# Altium schematic symbol library GraphicsPrimitives.SchLib: 1 symbol
Pins are listed as number, name and electrical type; pins without a type are passive.

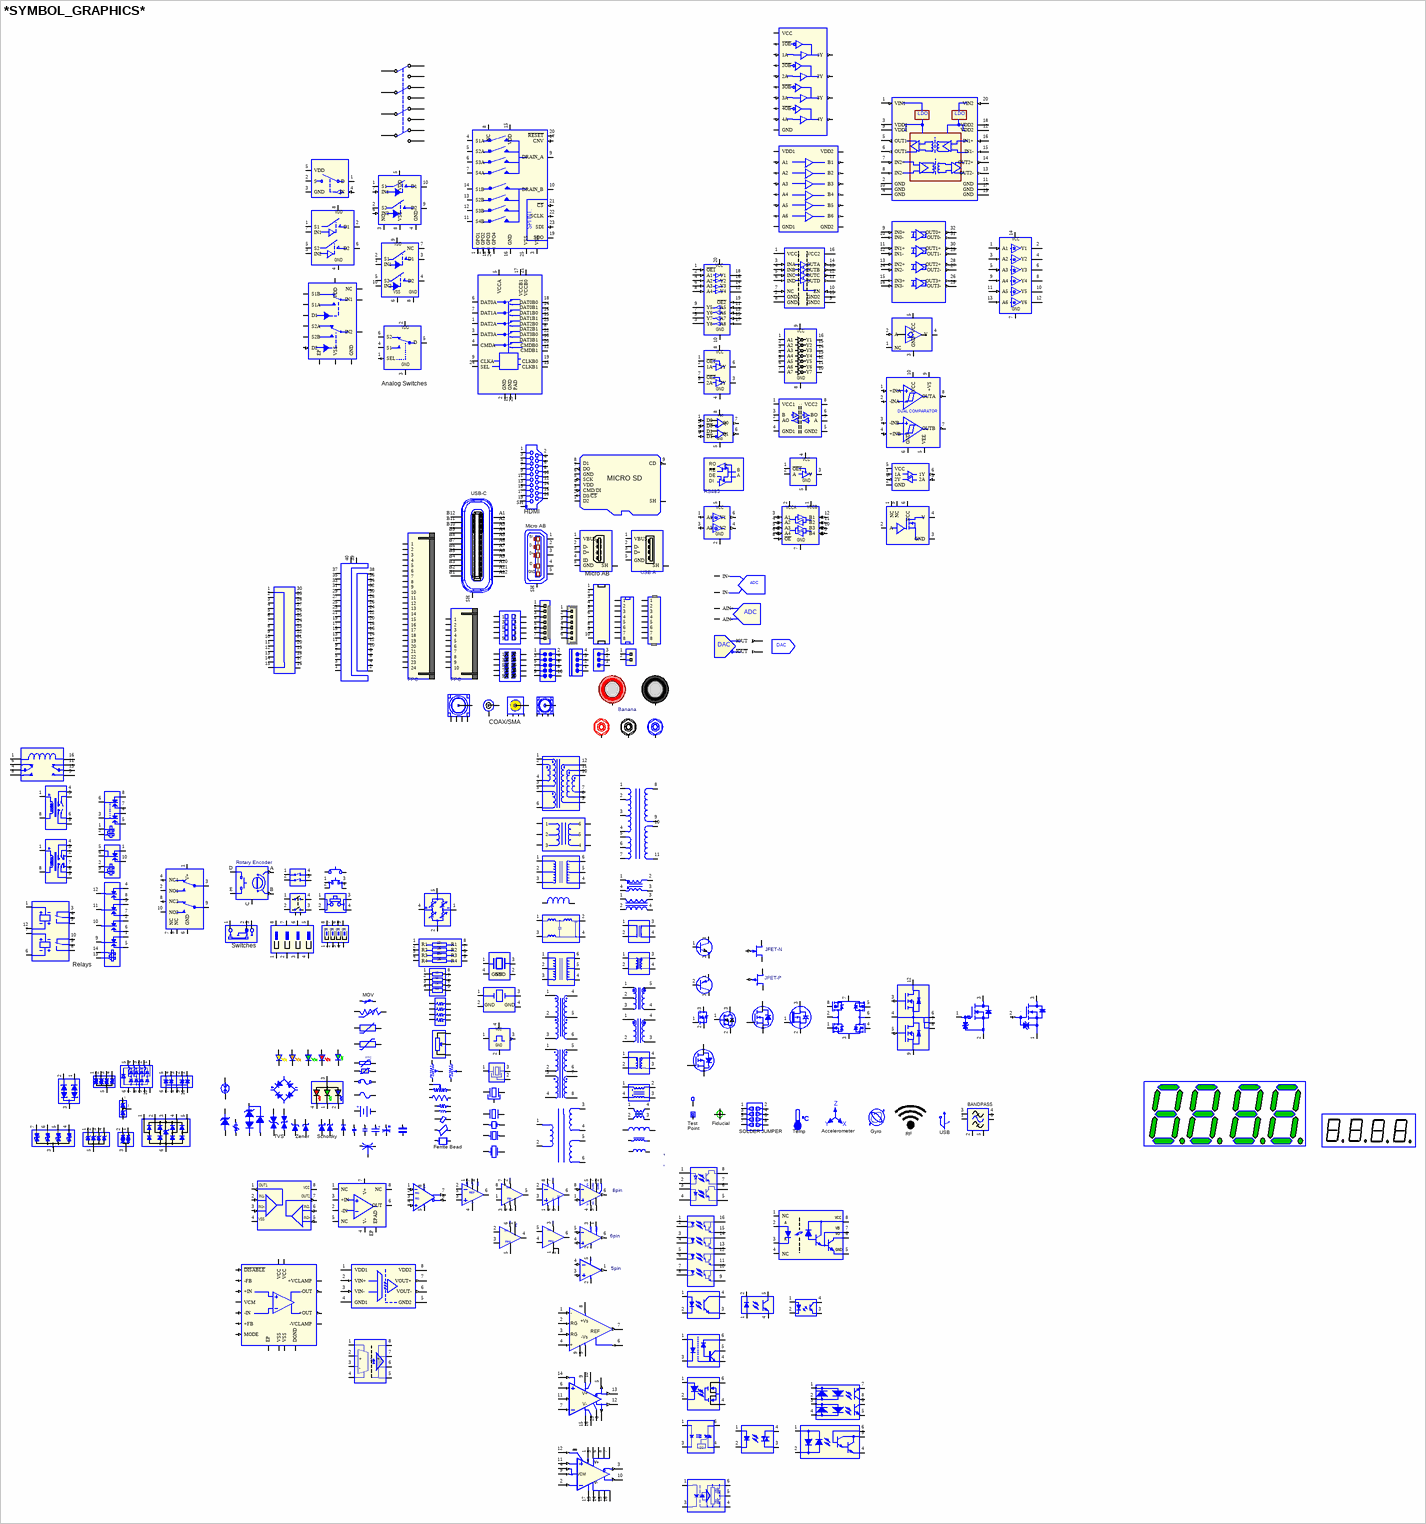
[diagram p0: symbol *SYMBOL_GRAPHICS*]

## *SYMBOL_GRAPHICS*
designator *
pins: 1, 1, 1 VDD1 (power), 1 NC, 1, 1, 1, 1 D0 (in), 1, 1 OUT1 (out), 1, 1, 1, 1, 1, 1, 1, 1, 1, 1, 1, 1, 1, 1, 1, 1, 1, 1, 1, 1, 1, 1, 1, 1, 1, 1, 1 +, 1, 1, 1, 1, 1, 1, 1, 1, 1 O-, 1, 1 OSC1, 1, 1, 1, 1, 1, 1, 1, 1 CG, 1 A, 1 A, 1 A, 1, 1, 1, 1, 1, 1, 1, 1 C1, 1, 1, 1, 1 GND, 1, 1, 1 TP, 1 S1, 1 G, 1 G, 1 GATE, 1 E, 1 B, 1 N1G, 1 A1 (in), 1 VCCB, 1 ~{OE1}, 1 ~{OE1}, 1 VCC1, 1 ~{OE1} (in), 1 A1, 1 NC, 1 VCC1 (power), 1 R1, 1, 1 G, 1, 1 VDD1 (power), 1, 1 NC, 1 1A (in), 1 ~{1OE} (in), 1, 1, 1, 1, 1 SOURCE, 1 NC, 1 -FB (in), 1 (power), 1, 1, 1 XTAL1, 1 CATHODE, 1, 1, 1 (power), 1, 1, 1 +INA (in), 1 GATE (in), 1 GATE (in), 1 V+ (power), 1 T1, 1 T1, 1, 1 COIL+, 1 NC1, 1 NC, 1, 1, 1, 1, 1, 1, 1, 1, 1 D2, 1, 1 VBUS (power), 1 VBUS (power), 1 VBUS (power), 1, 1, 1, 1, 1, 1, 1, 1, 1, 1, 1, 1, 1, 1, 1, 1, 1 SEL (in), 1 S1, 1 D (io), 1 IN1, 1 S1 (io), 1 GPO1 (out), 1 D1, 1 DAT2A, 1, 1 VIN1 (in), 1 OUT (out), 1 REF, 1 SHDN#, 1 RS+, 1 RG, 1 +IN (in), 1 VOSTRM, 1 GND, 1 -IN (in), 1, 1 A, 1 ANODE, 1, 1 ANODE, 1, 1 A1, 1 IN, 1 NC, 1, 1, 1 TMDS DATA2+, 1 A1 (in), 1, 1, 1, 1 -IN (in), 2 S, 2 S, 2, 2, 2 VIN+ (in), 2 VIN- (in), 2, 2, 2 ~{D0} (in), 2, 2 IN1- (in), 2, 2, 2, 2, 2, 2, 2, 2, 2, 2, 2, 2, 2, 2, 2, 2, 2, 2, 2, 2, 2 GND, 2, 2, 2, 2, 2, 2 -, 2, 2, 2, 2, 2, 2, 2, 2, 2, 2, 2 EX2, 2, 2 OSC2, 2, 2, 2, 2 GND (power), 2, 2, 2 CB, 2 K, 2 K, 2 K, 2 K, 2 K, 2, 2, 2, 2, 2, 2, 2, 2 C2, 2, 2, 2, 2 GND, 2, 2 G1, 2 S2, 2 SOURCE, 2 B, 2 E, 2 N1D/P1D, 2 GND, 2 VCCA, 2 1A, 2 A, 2 AO, 2 A1 (in), 2 A2, 2 A (in), 2 GND1 (power), 2 R2, 2, 2 S, 2, 2 A1 (in), 2, 2 A, 2 GND (power), 2 1A (in), 2, 2, 2, 2, 2 GATE (in), 2 -IN, 2 +IN (in), 2 (power), 2, 2, 2 GND1, 2 ANODE, 2, 2, 2 (power), 2, 2, 2 -INA (in), 2 DRAIN, 2 DRAIN, 2 NO1, 2 NC1, 2 COIL-, 2 NC2, 2 COIL1, 2, 2, 2, 2, 2, 2, 2, 2, 2 D3/~{CS} (in), 2, 2 D-, 2 D-, 2 D-, 2, 2, 2, 2, 2, 2, 2 G1, 2, 2 G1, 2 GND_1 (power), 2, 2, 2 VDD, 2 D1, 2 S (io), 2 S1, 2 S2 (io), 2 GPO2 (out), 2 S1B, 2 GND, 2, 2 GND (power), 2 V- (power), 2 GND (power), 2 IN-, 2 V+, 2 IN-, 2 GRD, 2 IN-, 2 GND2, 2 RG_2, 2, 2 CATHODE, 2, 2 CATHODE, 2, 2 A2, 2 GND, 2 AN, 2, 2, 2 TMDS DATA2 SH, 2 Y1 (oc), 2, 2 GND (power), 2 RG (in), 3 D, 3, 3, 3 VIN- (in), 3 VOUT+ (out), 3, 3, 3, 3 D1 (in), 3, 3 IN1+ (in), 3, 3, 3, 3, 3, 3, 3, 3, 3, 3, 3, 3 TAP, 3 OUT (out), 3, 3, 3, 3, 3 2, 3 A, 3, 3, 3, 3, 3, 3 GND (power), 3, 3, 3 CC, 3, 3, 3 GND, 3, 3 D, 3 G2, 3 DRAIN, 3 C, 3 C, 3 TG (in), 3 N1S/N2S, 3 A2 (in), 3 A1 (io), 3 2Y, 3 Y, 3 B, 3 Y8 (hiz), 3 A3, 3 GND (power), 3 INA (in), 3 R3, 3 D, 3 A2 (in), 3, 3 GND, 3 2A (in), 3 1Y (out), 3, 3, 3, 3 DRAIN, 3 +IN, 3 -IN (in), 3, 3, 3 XTAL2, 3, 3, 3 -INB (in), 3 SOURCE, 3 SOURCE, 3 COM1, 3 COM1, 3 COM1, 3, 3 COMMON1, 3 NC3, 3, 3, 3, 3, 3, 3, 3, 3 CMD/DI (in), 3, 3 D+, 3 D+, 3 D+, 3, 3, 3, 3, 3, 3, 3 G2, 3 G2, 3 GND_2 (power), 3, 3, 3 GND, 3 IN2, 3 GND (power), 3 D1, 3 NC, 3 VSS (power), 3 VSS (power), 3 DAT3A, 3, 3 VDD1 (power), 3 IN+, 3 IN+ (in), 3 VS (power), 3 IN+, 3, 3 IN+, 3 IC, 3 IN+, 3 VCC, 3 RG_3, 3, 3 C, 3, 3 A3, 3 NC, 3 CA, 3, 3, 3 TMDS DATA2-, 3 A2 (in), 3, 3 2, 3 RG (in), 4, 4, 4 GND1 (power), 4 CM (in), 4, 4, 4, 4 ~{D1} (in), 4, 4 VCC- (power), 4, 4, 4, 4, 4, 4, 4, 4, 4, 4, 4, 4 VCC, 4, 4, 4 O+, 4, 4 CR, 4, 4, 4, 4, 4 L6, 4, 4, 4, 4 GND, 4, 4 D2, 4 TGR, 4 N2G, 4 Y2 (out), 4 A2 (io), 4 GND (power), 4 V (power), 4 GND1, 4 A2 (in), 4 A4, 4 Y (oc), 4 INB (in), 4 R4, 4 A3 (in), 4 Y, 4 2Y (out), 4 ~{2OE} (in), 4, 4, 4 V-, 4 +FB (in), 4, 4, 4 GND2, 4, 4 +INB (in), 4 NC1 (in), 4 NO1, 4 NO1, 4, 4 NC1, 4 NC4, 4, 4, 4, 4, 4, 4, 4 VDD (power), 4, 4 ID (power), 4 ID (power), 4, 4, 4, 4, 4, 4, 4 G3, 4 G3, 4 GND_3 (power), 4 GND_3 (power), 4, 4, 4 S1, 4 GND, 4 IN (in), 4 D2, 4 GND (power), 4 S1A, 4 GND, 4 CMDA, 4, 4 GND (power), 4 AIN- (power), 4 IN-, 4 IN- (in), 4 IN+ (in), 4 OUT, 4 V-, 4 V-, 4 V- (power), 4 V-, 4 RS+, 4 +IN (in), 4, 4 E, 4 EMITTER, 4, 4 LOAD, 4, 4 A4, 4 NC, 4 NC, 4, 4, 4 TMDS DATA1+, 4 Y2 (oc), 4, 4 GND (power), 4 3, 4 +IN (in), 5, 5, 5 GND2 (power), 5 VS+ (power), 5 GND, 5 IN2+ (in), 5, 5, 5, 5, 5, 5, 5, 5, 5 EX, 5, 5 GND, 5, 5, 5 L8, 5 GND, 5, 5 BG (in), 5 P2G, 5 VCC, 5 A3 (io), 5 2A, 5 G (power), 5 GND2, 5 Y7 (hiz), 5 A5, 5 VCC (power), 5 INC (in), 5 R4, 5 A4 (in), 5 NC, 5 VCC (power), 5 2A (in), 5, 5 NC, 5 MODE (in), 5, 5 VEE (power), 5 NC, 5 NO2, 5 NO2, 5, 5 NO1, 5 NO1, 5 COMMON, 5, 5, 5, 5, 5, 5 SCK (in), 5, 5 GND (power), 5 GND (power), 5 GND (power), 5, 5, 5, 5, 5, 5, 5 G4, 5 G4, 5 SIG, 5, 5, 5 D, 5 S2, 5 VDD (power), 5 S2, 5 VDD (power), 5 S2A, 5 IN2, 5 VCCA, 5, 5 OUT1+ (out), 5 AIN+ (power), 5 V+ (power), 5 IN- (in), 5 V-, 5 OUT, 5 REF, 5 V+ (power), 5 NC, 5 RS-, 5 -VS (power), 5 CO, 5 COLLECTOR, 5, 5 B4, 5 GND, 5 GND (power), 5, 5, 5 TMDS DATA1 SH, 5 A3 (in), 5, 5 -FB2 (out), 5 -VS (power), 6, 6, 6 VOUT- (out), 6 VS+ (power), 6, 6 Q1 (out), 6 IN2- (in), 6, 6, 6, 6, 6, 6, 6, 6, 6, 6, 6 L7, 6, 6 VSW (power), 6 N2D/P2D, 6 Y1 (out), 6 A4 (io), 6 1Y, 6 BO, 6 A3 (in), 6 A6, 6 IND (in), 6 R3, 6 A5 (in), 6 VCC, 6 1Y (out), 6 2Y (out), 6, 6 OUT, 6 VCC (power), 6, 6 GND (power), 6 GND (power), 6 COM2, 6 COM2, 6, 6 COMMON2, 6 NO2, 6 COM, 6, 6, 6, 6, 6, 6 GND (power), 6, 6, 6, 6, 6, 6, 6, 6, 6, 6 S2, 6 D2, 6 VSS (power), 6 IN2 (in), 6 S3A, 6 S2A, 6 DAT0A, 6, 6 OUT1- (out), 6 OUT (out), 6 V+, 6, 6 OUT, 6 OUT (out), 6 OUT, 6 OUT, 6 REF (in), 6 VCC (power), 6 LOAD, 6, 6 B3, 6 OUT, 6 VO (oc), 6, 6, 6 TMDS DATA1-, 6 Y3 (oc), 6, 6, 6 +IN2 (in), 6 REF (in), 7, 7, 7 VOUT+ (out), 7 VS+ (power), 7 Q0 (out), 7 OUT2 (out), 7, 7, 7, 7, 7, 7 L5, 7, 7 D1, 7 VSW (power), 7 P1S/P2S, 7 GND, 7 ~{OE2}, 7 A, 7 Y6 (hiz), 7 A7, 7 NC (in), 7 R2, 7 A6 (in), 7 GND (power), 7, 7 V+, 7 VCC (power), 7, 7 OUTB (out), 7 NC, 7 NC1, 7, 7 NO2, 7 NO3, 7, 7, 7, 7, 7 DO (out), 7, 7, 7, 7, 7, 7, 7, 7, 7 IN1, 7 NC, 7 IN1 (in), 7 S4A, 7 D2 (in), 7 DAT1A, 7, 7 IN2+ (in), 7, 7 V+, 7 GRD, 7 V+, 7 VOUT (out), 7 B2, 7 VB (power), 7, 7, 7 TMDS DATA0+, 7 GND (power), 7 -IN2 (in), 7 VOUT (out), 8, 8, 8 VDD2 (power), 8 VS+ (power), 8 VCC, 8 VCC+ (power), 8, 8, 8, 8, 8, 8, 8 D1, 8 VSW (power), 8 P1G, 8 ~{OE} (in), 8 VCC (power), 8 VCC2, 8 A4 (in), 8 GND, 8 GND1 (power), 8 R1, 8 GND1 (power), 8 3Y (out), 8, 8 NC, 8 +VCLAMP (power), 8, 8 OUTA (out), 8 NC2 (in), 8 T2, 8 T2, 8, 8 NC2, 8 NO4, 8, 8, 8, 8 D1, 8, 8, 8, 8, 8, 8, 8, 8, 8 VDD (power), 8 GND (power), 8 VSS (power), 8 NC, 8 S2B, 8 DAT2B1, 8, 8 IN2- (in), 8 RS-, 8 RG, 8 -IN (in), 8 VOSTRIM, 8 +VS (power), 8 B1, 8 VCC (power), 8, 8, 8 TMDS DATA0 SH, 8 Y4 (oc), 8 4, 8 +FB2 (out), 8 +VS (power), 9, 9 CM (in), 9, 9, 9 PGND (power), 9 B4 (io), 9 Y5 (hiz), 9 VCC, 9 GND2 (power), 9 GND2 (power), 9 3A (in), 9, 9 VCM, 9 +VS (power), 9 COM2, 9, 9 COMMON1, 9 COIL2, 9, 9 CD (out), 9, 9, 9, 9, 9, 9, 9, 9, 9 VDD (power), 9 D2 (io), 9 DRAIN_A, 9 VDD (power), 9 CLKA, 9, 9 IN0+ (in), 9 VDD1 (power), 9 TMDS DATA0-, 9 A4 (in), 9 5, 9 +VS2 (power), 9 PAD (power), 10, 10 VOUT- (out), 10, 10, 10 B3 (io), 10 GND (power), 10 Y7, 10 EN (in), 10 B6 (out), 10 ~{3OE} (in), 10, 10 +OUT (out), 10 VCC (power), 10 NO2, 10, 10 COMMON2, 10 NO, 10, 10, 10, 10, 10, 10, 10, 10, 10, 10 IN2, 10 D1 (io), 10 DRAIN_B, 10 NC, 10 DAT3B1, 10, 10 IN0- (in), 10 GND (power), 10 TMDS CLOCK+, 10 Y5 (oc), 10 +VS2 (power), 11, 11 VIN+ (in), 11 B2 (io), 11 A5 (in), 11 Y6, 11 OUTD (out), 11 B5 (out), 11 4Y (out), 11, 11 -OUT (out), 11 COMMON3, 11, 11, 11, 11, 11 S4B, 11 IN1, 11 GND, 11, 11 IN1+ (in), 11 GND (power), 11 TMDS CLOCK SH, 11 A5 (in), 11 7, 11 VOCM (in), 12, 12 ~{PD} (in), 12 VIN (power), 12 B1 (io), 12 Y4 (hiz), 12 Y5, 12 OUTC (out), 12 B4 (out), 12 4A (in), 12, 12 ~{DISABLE} (in), 12, 12 COMMON4, 12, 12, 12, 12 S3B, 12 S1A, 12 CMDB1, 12, 12 IN1- (in), 12 VDD2 (power), 12 TMDS CLOCK-, 12 Y6 (oc), 12 +OUT2 (out), 13, 13 VS- (power), 13 A6 (in), 13 Y4, 13 OUTB (out), 13 B3 (out), 13 ~{4OE} (in), 13 -VCLAMP (power), 13 COIL+, 13, 13, 13, 13 S2B, 13 EP, 13 CLKB1, 13 IN2+ (in), 13 OUT2- (out), 13 CEC, 13 A6 (in), 13 6, 13 -OUT2 (out), 14, 14 VS- (power), 14 Y3 (hiz), 14 Y3, 14 OUTA (out), 14 B2 (out), 14 VCC (power), 14 VSS (power), 14 COIL-, 14, 14, 14, 14 S1B, 14 DAT0B1, 14 IN2- (in), 14 OUT2+ (out), 14 Utility/HEAC+, 14 VCC (power), 14 DISABLE_N (in), 15, 15 VS- (power), 15 A7 (in), 15 Y2, 15 GND2 (power), 15 B1 (out), 15 VSS (power), 15, 15, 15, 15 VDD (power), 15 DAT1B1, 15 IN3+ (in), 15 IN1- (in), 15 DDC_SCL, 15 -VS2 (power), 16, 16 VS- (power), 16 Y2 (hiz), 16 Y1, 16 VCC2 (power), 16 VDD2 (power), 16 DGND (power), 16, 16, 16 15A, 16 GND (power), 16 DAT1B0, 16 IN3- (in), 16 IN1+ (in), 16 DDC_SDA, 16 8, 16 -VS2 (power), 17 PAD, 17 A8 (in), 17 EP (power), 17, 17, 17 14A, 17 CNV (in), 17 VCCB1, 17 GND (power), 17 GND, 18 Y1 (hiz), 18, 18, 18 13A, 18 GPO3 (out), 18 DAT0B0, 18 VDD2 (power), 18 +5V, 19 ~{OE2} (in), 19, 19, 19 12A, 19 SDO, 19 CLKB0, 19 GND (power), 19 HPD/HEAC-, 20 VCC (power), 20, 20, 20 11A, 20 ~{RESET}, 20 CMDB0, 20 VIN2 (in), 21, 21, 21 10A, 21 ~{CS} (in), 21 VCCB0, 22, 22, 22 9A, 22 SCLK (in), 22 DAT3B0, 23, 23, 23 8A, 23 SDI (in), 23 DAT2B0, 24, 24, 24 7A, 24 GPO4 (out), 24 SEL, 25, 25 6A, 25 VSS (power), 25 PAD, 25 OUT3- (out), 25 EP (power), 26, 26 5A, 26 OUT3+ (out), 27, 27 4A, 27 OUT2- (out), 28, 28 3A, 28 OUT2+ (out), 29, 29 2A, 29 OUT1- (out), 30, 30 1A, 30 OUT1+ (out), 31, 31 OUT0- (out), 32, 32 OUT0+ (out), 33, 34, 35, 36, 37, 38, 39, 40, 80 ~{IOUT} (out) "Open-Drain DAC Complementary Output Source. Analog output (current mode). Connect through a 50  ohm resistor to AGND.", 81 IOUT (out) "Open-Drain DAC Output Source. Analog output (current mode). Connect through a 50  ohm resistor to AGND.", A ANODE, A, A, A, A, A, A, A (out), A1, A2, A3, A4, A5, A6, A7, A8, A9, A10, A11, A12, B (out), B1, B2, B3, B4, B5, B6, B7, B8, B9, B10, B11, B12, C CATHODE, C CATHODE, C GND (power), D, E, EP EPAD, K, K, K, K, M1 NC, M2 NC, SH, SH (power), SH, SH, SH, SH
text: LDO; SPI INT.; Analog Switches; DUAL COMPARATOR; RO; R; RE; DE; MICRO SD; DI; RS485; USB-C; HDMI; Micro AB; 5V; USB A; ADC; DAC; FPC; Banana; COAX/SMA; Rotary Encoder; ON; 10k; Switches; JFET-N; Relays; JFET-P; MOV; PTC; Z; BANDPASS; Test; Fiducial; X; Point; SOLDER JUMPER; Temp; Accelerometer; Gyro; USB; RF; TVS; Zener; Schottky; Ferrite Bead; 8pin; PD; 6pin; 5pin; +Vs; -Vs; ZC